# EAGLE library part ESP32-WROVER-E (library chips)
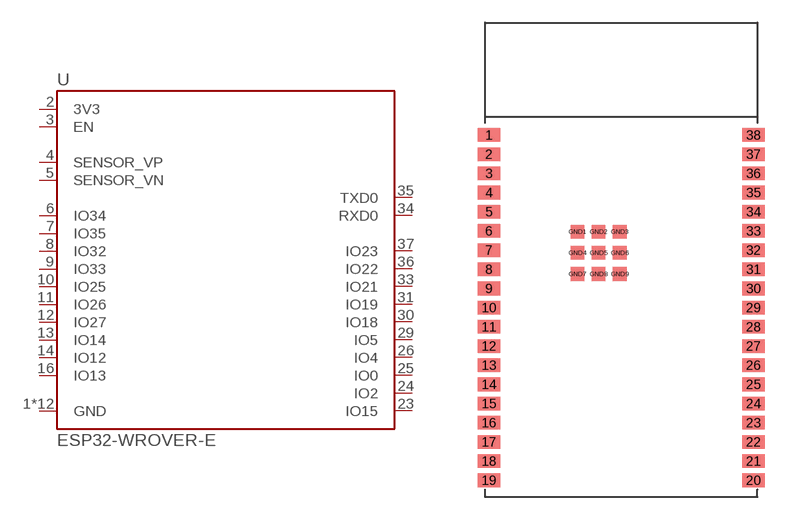
[diagram p116: symbol with the pads of ESP32-WROVER-E; footprint ESP32-WROVER-E]

Designator prefix U

## ESP32-WROVER-E (DIGIKEY: 1965-ESP32-WROVER-E(8MB)CT-ND; MANUFACTURER: Espressif Systems; MPN: ESP32-WROVER-E (8MB))  [ESP32-WROVER-E]
1  GND
2  3V3
3  EN
4  SENSOR_VP
5  SENSOR_VN
6  IO34
7  IO35
8  IO32
9  IO33
10  IO25
11  IO26
12  IO27
13  IO14
14  IO12
15  GND
16  IO13
23  IO15
24  IO2
25  IO0
26  IO4
29  IO5
30  IO18
31  IO19
33  IO21
34  RXD0
35  TXD0
36  IO22
37  IO23
38  GND
GND1  GND
GND2  GND
GND3  GND
GND4  GND
GND5  GND
GND6  GND
GND7  GND
GND8  GND
GND9  GND

## Footprint ESP32-WROVER-E (pad centres in mm)
smd 1.5 x 0.9: 1 0.25,23.96; 2 0.25,22.69; 3 0.25,21.42; 4 0.25,20.15; 5 0.25,18.88; 6 0.25,17.61; 7 0.25,16.34; 8 0.25,15.07; 9 0.25,13.8; 10 0.25,12.53; 11 0.25,11.26; 12 0.25,9.99; 13 0.25,8.72; 14 0.25,7.45; 15 0.25,6.18; 16 0.25,4.91; 17 0.25,3.64; 18 0.25,2.37; 19 0.25,1.1; 20 17.75,1.1; 21 17.75,2.37; 22 17.75,3.64; 23 17.75,4.91; 24 17.75,6.18; 25 17.75,7.45; 26 17.75,8.72; 27 17.75,9.99; 28 17.75,11.26; 29 17.75,12.53; 30 17.75,13.8; 31 17.75,15.07; 32 17.75,16.34; 33 17.75,17.61; 34 17.75,18.88; 35 17.75,20.15; 36 17.75,21.42; 37 17.75,22.69; 38 17.75,23.96
smd 0.9 x 0.9: GND1 6.1,17.56; GND2 7.5,17.56; GND3 8.9,17.56; GND4 6.1,16.16; GND5 7.5,16.16; GND6 8.9,16.16; GND7 6.1,14.76; GND8 7.5,14.76; GND9 8.9,14.76